# EAGLE library part SN74LVC1G3157DBVR (library balmer)
SINGLE-POLE DOUBLE-THROW ANALOG SWITCH
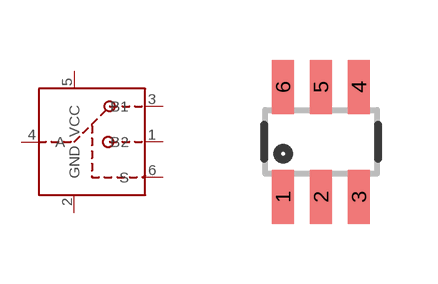
[diagram p17: symbol with the pads of SOT23-6; footprint SOT23-6]

Designator prefix -

## SN74LVC1G3157DBVR  [SOT23-6]
1  B2
2  GND  pwr
3  B1
4  A
5  VCC  pwr
6  S

## Footprint SOT23-6 (pad centres in mm)
smd 0.55 x 1.35: 1 -0.95,-1.375; 2 0,-1.375; 3 0.95,-1.375; 4 0.95,1.375; 5 0,1.375; 6 -0.95,1.375